# EAGLE library part AD628 (library Projekt)
ANALOG DEVICES
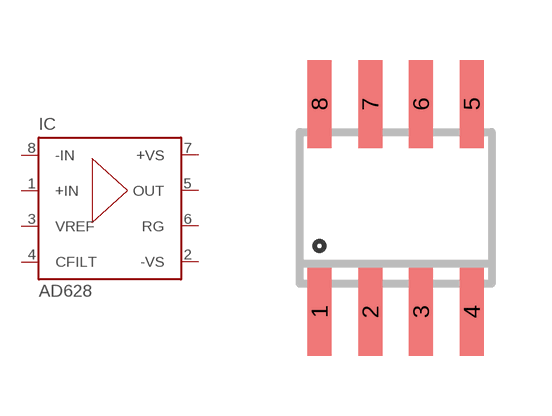
[diagram p6: symbol with the pads of SO8; footprint SO8]

Designator prefix IC

## AD628  [SO8]
1  +IN  in
2  -VS  pwr
3  VREF  pas
4  CFILT  pwr
5  OUT  out
6  RG  out
7  +VS  pwr
8  -IN  pas

## Footprint SO8 (pad centres in mm)
8-Lead Small Outline IC (SO-8) Source: http://www.analog.com/UploadedFiles/Data_Sheets/703465986AD8611_2_0.pdf
smd 0.6 x 2.2: 1 -1.905,-2.6; 2 -0.635,-2.6; 3 0.635,-2.6; 4 1.905,-2.6; 5 1.905,2.6; 6 0.635,2.6; 7 -0.635,2.6; 8 -1.905,2.6